# Altium footprint library DFN1_5X1_5-4.PcbLib: 1 footprints
Each footprint in its own frame and in the unit in brackets; x right, y up, seen from the top. Pads: shape width x height; smd on the part's side, far side on the other; paste and mask are expansions set on the pad; w line width, h text height; cw(c..) or ccw(c..) is an arc to the next point about the centre after c.
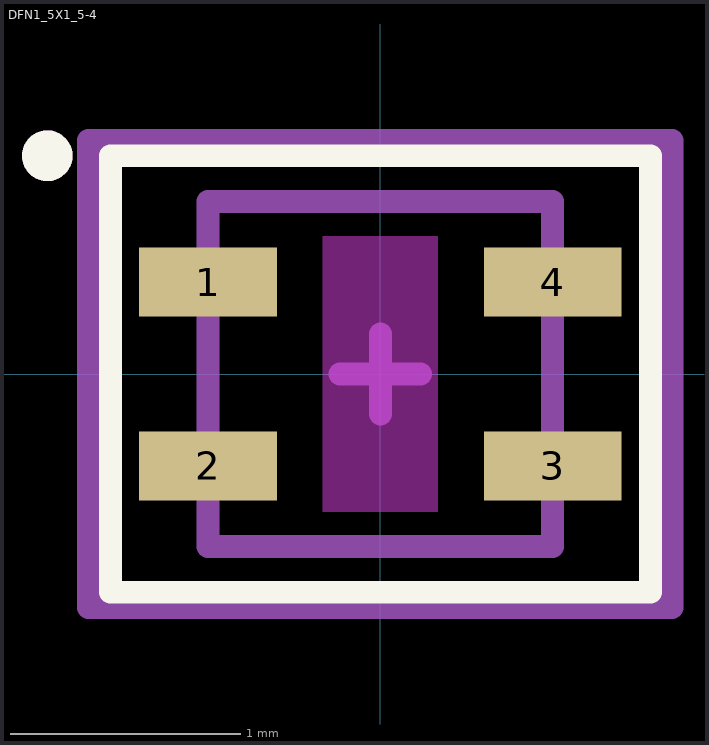
[diagram p0: the footprint, top view; thin cyan lines are the x and y axes]

## DFN1_5X1_5-4 [mm]
pads (4):
  rect 0.6x0.3 smd: 1(-0.75,0.4) 2(-0.75,-0.4) 3(0.75,-0.4) 4(0.75,0.4)
Top Overlay:
  circle w0.12: c-1.45,0.95 r0.05
  lines w0.1: -1.175,-0.95 1.175,-0.95 1.175,0.95 -1.175,0.95 -1.175,-0.95
Keep-Out Layer:
  region: -0.25,0.6 -0.25,-0.6 0.25,-0.6 0.25,0.6
Mechanical 1:
  circle w0.12: c-1.45,0.95 r0.05
  lines w0.1: -0.75,-0.75 -0.75,0.75 0.75,0.75 0.75,-0.75 -0.75,-0.75
  text ".Designator" at 0.254,0.052 h0.6
Mechanical 15:
  lines w0.1: -0.175,0 0.175,0 ; 0,-0.175 0,0.175 ; -1.27,-1.016 1.27,-1.016 1.27,1.016 -1.27,1.016 -1.27,-1.016
3D body "SHT41I-AD1B-R2.STEP": height 0.59, standoff 0, extent -0.75,-0.75 0.75,0.75